# EAGLE library part LM3622 (library adafruit)
National LM3622 li-ion charger http://www.ladyada.net/library/eagle
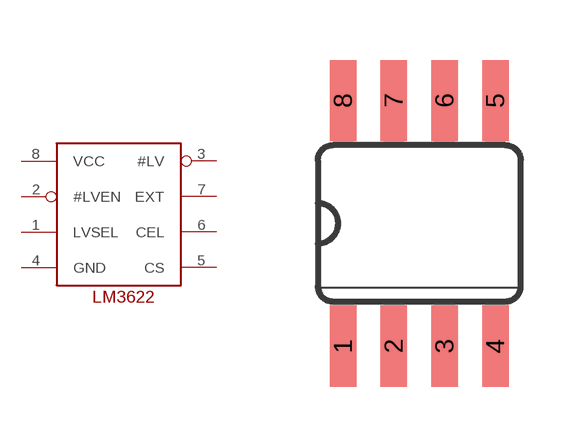
[diagram p6: symbol with the pads of SO08; footprint SO08]

Designator prefix -

## LM3622  [SO08]
1  LVSEL  in
2  #LVEN  in
3  #LV  out
4  GND  sup
5  CS  pas
6  CEL  pas
7  EXT  out
8  VCC  sup

## Footprint SO08 (pad centres in mm)
smd 0.66 x 2.032: 1 -1.905,-3.073; 2 -0.635,-3.073; 3 0.635,-3.073; 4 1.905,-3.073; 5 1.905,3.073; 6 0.635,3.073; 7 -0.635,3.073; 8 -1.905,3.073